# Altium footprint library Pot.PcbLib: 3 footprints
Each footprint in its own frame and in the unit in brackets; x right, y up, seen from the top. Pads: shape width x height; smd on the part's side, far side on the other; paste and mask are expansions set on the pad; w line width, h text height; cw(c..) or ccw(c..) is an arc to the next point about the centre after c.
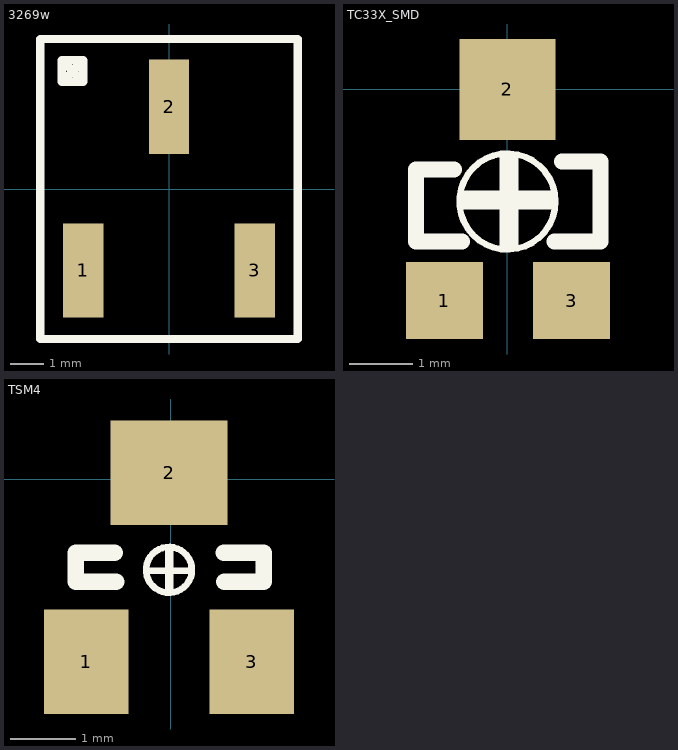
[diagram p0: the footprints below, top view; thin cyan lines are the x and y axes]

## 3269w [mm] "3269w pot"
height 0.007
pads (3):
  rect 1.19x2.79 smd: 1(-2.54,-2.413) 2(0,2.438) 3(2.54,-2.413)
Top Overlay:
  lines w0.25: -3.175,3.175 -2.54,3.175 ; -3.175,3.175 -3.175,3.81 ; -3.175,3.175 -2.54,3.81 ; -3.175,3.81 -2.54,3.81 ; -3.175,3.81 -2.857,3.492 -2.54,3.175 ; -2.54,3.175 -2.54,3.81 ; -2.54,3.175 -2.54,3.81 ; -3.81,-4.445 3.81,-4.445 3.81,4.445 -3.175,4.445 -3.81,4.445 -3.81,-4.445
3D body "3269W.stp": height 8.38, standoff 0, extent -3.353,-3.073 3.353,3.404

## TC33X_SMD [mil] "SMD Trim Pot"
pads (3):
  rect 48x48 smd: 1(-39.37,-131.85) 3(40,-131.85)
  rect 60x63 smd: 2(0,0)
Top Overlay:
  circle w4: c0,-70 r30
  rectangle: -30,-75 30,-63.09
  rectangle: -5,-100 6.91,-40
  lines w10: -57.09,-75.75 -57.09,-50 ; -33.46,-50 -57.09,-50 ; -28.32,-95 -57.09,-95 -57.09,-69 -57.09,-50 ; 29.23,-95 58,-95 58,-69 ; 34,-45 58,-45 58,-75.75
3D body "3314J2.stp": height 106.89, standoff -0.53, extent -96.81,-163.5 100,33.5

## TSM4 [mm]
height 7.44
pads (3):
  rect 1.3x1.6 smd: 1(-1.3,-2.8) 3(1.24,-2.8)
  rect 1.8x1.6 smd: 2(-0.03,0.1)
Top Overlay:
  circle w0.102: c-0.03,-1.39 r0.351
  rectangle: -0.09,-1.76 0.037,-1
  rectangle: -0.41,-1.45 0.321,-1.353
  lines w0.254: -0.86,-1.13 -1.46,-1.13 -1.46,-1.57 -0.84,-1.57 ; 0.81,-1.13 1.42,-1.13 1.42,-1.57 0.82,-1.57
3D body: height 5.3, standoff 0, extent -2.5,-3.25 2.5,0.45